# EAGLE library part XFA0101 (library custom_parts)
RFMD XFA0101 transformer
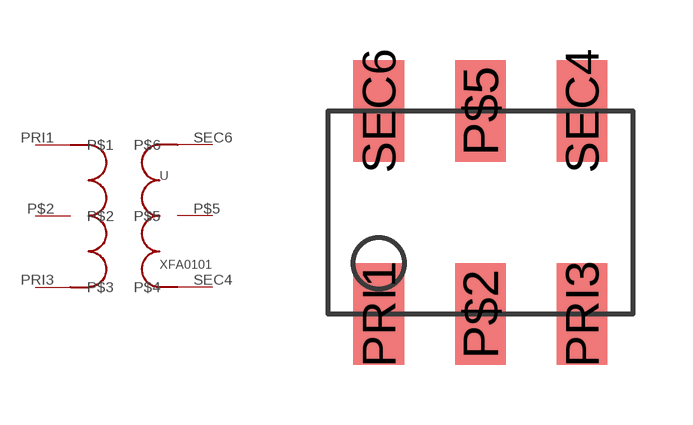
[diagram p18: symbol with the pads of SO6; footprint SO6]

Designator prefix -

## XFA0101  [SO6]
P$2  P$2
P$5  P$5
PRI1  P$1
PRI3  P$3
SEC4  P$4
SEC6  P$6

## Footprint SO6 (pad centres in mm)
SO6 package for RFMD SMT Transformer
smd 1.27 x 2.54: P$2 0,-2.54; P$5 0,2.54; PRI1 -2.54,-2.54; PRI3 2.54,-2.54; SEC4 2.54,2.54; SEC6 -2.54,2.54